# Altium footprint library Mezeq_Semiconductors.PcbLib: 16 footprints
Each footprint in its own frame and in the unit in brackets; x right, y up, seen from the top. Pads: shape width x height; smd on the part's side, far side on the other; paste and mask are expansions set on the pad; w line width, h text height; cw(c..) or ccw(c..) is an arc to the next point about the centre after c.
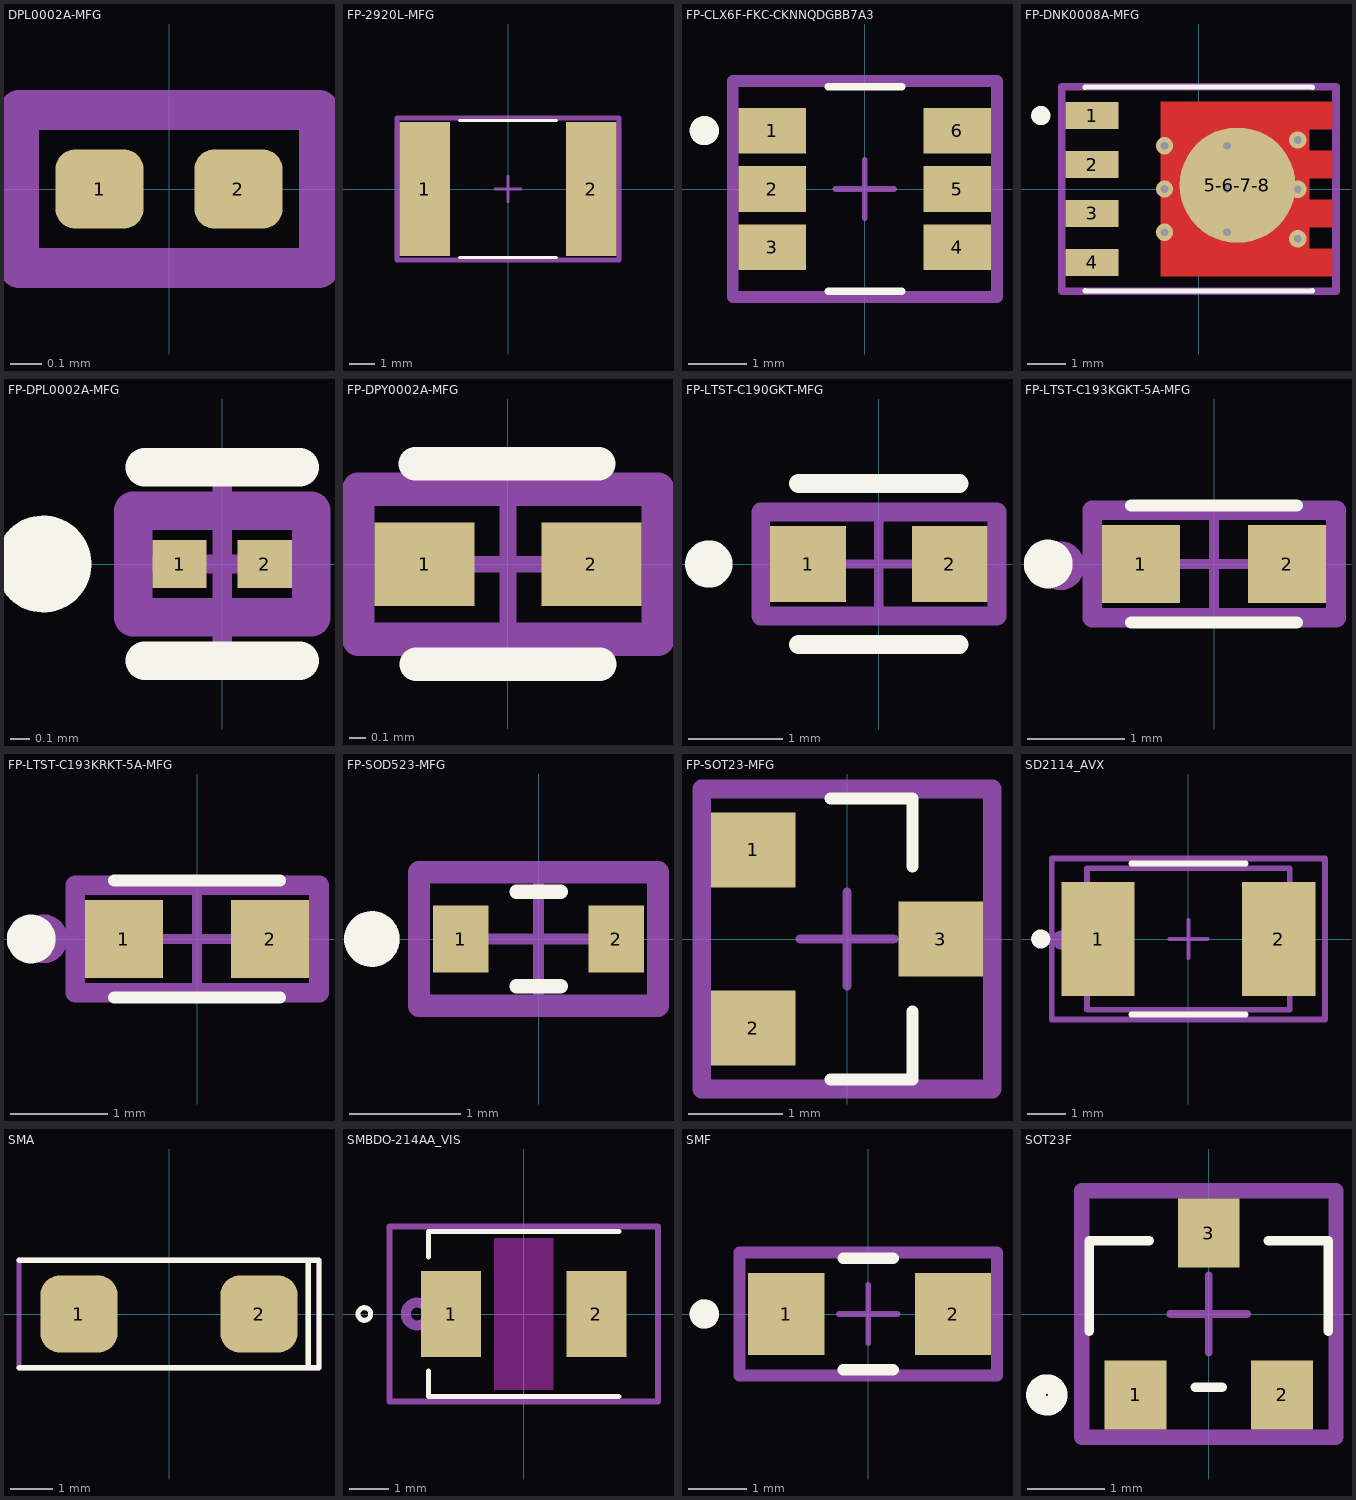
[diagram p0: the footprints below, top view; thin cyan lines are the x and y axes]

## DPL0002A-MFG [mm] "DPL (R-PX2SON-N2) Texas Instruments"
height 0.32
pads (2):
  rrect50% 0.28x0.25 smd paste+0 mask+0: 1(-0.22,0) 2(0.22,0)
Top Assembly:
  lines w0.127: -0.475,-0.25 0.475,-0.25 0.475,0.25 -0.475,0.25 -0.475,-0.25
  text ".Designator" at -2.474,0.533 h0.5
3D body "DPL0002A.stp": height 0.32, standoff 0, extent -0.3,-0.15 0.3,0.15

## FP-2920L-MFG [mm]
pads (2):
  rect 2x5.3 smd: 1(-3.3,0) 2(3.3,0)
Top Overlay:
  lines w0.127: -1.925,-2.72 1.925,-2.72 ; -1.925,2.72 1.925,2.72
Top Assembly:
  lines w0.127: -4.4,-2.82 4.4,-2.82 4.4,2.82 -4.4,2.82 -4.4,-2.82
  text ".Designator" at -4.998,-0.333 h1
Top Courtyard:
  lines w0.2: -4.4,-2.82 4.4,-2.82 4.4,2.82 -4.4,2.82 -4.4,-2.82
Top Component Center:
  lines w0.1: -0.5,0 0.5,0 ; 0,-0.5 0,0.5
3D body "Fuse_Littelfuse_2920L500-16MR_eec.STEP": height 1.25, standoff 0, extent -3.67,-2.558 3.685,2.562

## FP-CLX6F-FKC-CKNNQDGBB7A3 [mm]
pads (6):
  rect 1.16x0.78 smd paste+0 mask+0: 1(-1.585,1) 2(-1.585,0) 3(-1.585,-1) 4(1.585,-1) 5(1.585,0) 6(1.585,1)
Top Overlay:
  circle w0.25: c-2.75,1 r0.125
  lines w0.127: -0.63,-1.75 0.63,-1.75 ; -0.63,1.75 0.63,1.75
Top Assembly:
  circle w0.127: c-1.585,1 r0.121
  lines w0.2: -2.265,-1.85 -2.265,1.85 2.265,1.85 2.265,-1.85 -2.265,-1.85
  text ".Designator" at -4.998,-0.333 h1
Top Courtyard:
  lines w0.2: -2.265,-1.85 -2.265,1.85 2.265,1.85 2.265,-1.85 -2.265,-1.85
Top Component Center:
  lines w0.1: -0.5,0 0.5,0 ; 0,-0.5 0,0.5
3D body "Diode_Cree_CLX6F-FKC-CKNNQDGBB7A363_eec.STEP": height 0.25, standoff 0, extent -2.265,-1.85 2.265,1.85

## FP-DNK0008A-MFG [mm]
pads (5):
  rect 1.372x0.71 smd paste-2539.97 mask+0.05: 1(-2.77,1.905) 2(-2.77,0.635) 3(-2.77,-0.635) 4(-2.77,-1.905)
  round 3 smd paste-2539.97 mask+0.05: 5-6-7-8(1,0.1)
via -0.892,-1.124 diameter 0.45 hole 0.2
via -0.892,0 diameter 0.45 hole 0.2
via -0.892,1.122 diameter 0.45 hole 0.2
via 0.731,1.122 diameter 0.45 hole 0.2
via 0.731,-1.124 diameter 0.45 hole 0.2
via 0.731,0 diameter 0.45 hole 0.2
via 2.567,1.273 diameter 0.45 hole 0.2
via 2.567,-0.01 diameter 0.45 hole 0.2
via 2.567,-1.293 diameter 0.45 hole 0.2
Top Layer:
  region: -0.984,-2.26 3.456,-2.26 3.456,-1.55 2.866,-1.55 2.866,-0.99 3.456,-0.99 3.456,-0.28 2.866,-0.28 2.866,0.28 3.456,0.28 3.456,0.99 2.866,0.99 2.866,1.55 3.456,1.55 3.456,2.26 -0.984,2.26
Top Overlay:
  circle w0.25: c-4.1,1.905 r0.125
  lines w0.127: -2.95,-2.635 -2.95,-2.65 2.95,-2.65 2.95,-2.635 ; -2.95,2.635 -2.95,2.65 2.95,2.65 2.95,2.635
Top Paste:
  rectangle: 2.279,-2.159 3.356,-1.651
  rectangle: 2.282,-0.889 3.356,-0.381
  rectangle: 2.28,1.63 3.384,2.138
  rectangle: -0.82,1.138 0.68,2.138
  rectangle: 0.78,1.138 2.28,2.138
  rectangle: 0.78,0.038 2.28,1.038
  rectangle: -0.82,0.038 0.68,1.038
  rectangle: -0.82,-1.062 0.68,-0.062
  rectangle: 0.78,-2.162 2.28,-1.162
  rectangle: 0.78,-1.062 2.28,-0.062
  rectangle: -0.82,-2.162 0.68,-1.162
  rectangle: -3.293,-2.186 -2.221,-1.624
  rectangle: -3.293,-0.916 -2.221,-0.354
  rectangle: -3.293,0.354 -2.221,0.916
  rectangle: -3.293,1.624 -2.221,2.186
  rectangle: 2.277,0.381 3.356,0.889
Top Assembly:
  circle w0.25: c-3,2 r0.125
  lines w0.127: -3.556,-2.65 -3.556,2.65 3.556,2.65 3.556,-2.65 -3.556,-2.65
  text ".Designator" at -9.997,-0.666 h2
Top Courtyard:
  lines w0.2: -3.556,-2.65 -3.556,2.65 3.556,2.65 3.556,-2.65 -3.556,-2.65
Top Component Center:
  lines w0.1: -0.5,0 0.5,0 ; 0,-0.5 0,0.5
3D body "Trans_Texas_Instruments_CSD19532Q5B_eec.STEP": height 1.05, standoff 0, extent -3,-2.5 3,2.5

## FP-DPL0002A-MFG [mm]
pads (2):
  rect 0.28x0.25 smd paste+0 mask+0: 1(-0.22,0) 2(0.22,0)
Top Overlay:
  circle w0.25: c-0.925,0 r0.125
  lines w0.2: -0.4,-0.5 0.4,-0.5 ; -0.4,0.5 0.4,0.5
Top Assembly:
  circle w0.127: c-0.925,0 r0.125
  lines w0.127: -0.46,-0.275 -0.46,0.275 0.46,0.275 0.46,-0.275 -0.46,-0.275
  text ".Designator" at -1.5,-0.1 h0.3
Top Courtyard:
  lines w0.2: -0.46,-0.275 -0.46,0.275 0.46,0.275 0.46,-0.275 -0.46,-0.275
Top Component Center:
  lines w0.1: -0.5,0 0.5,0 ; 0,-0.5 0,0.5
3D body "Diode_Texas_Instruments_ESD441DPLR_eec.STEP": height 0.32, standoff 0, extent -0.3,-0.15 0.3,0.15

## FP-DPY0002A-MFG [mm]
pads (2):
  rect 0.6x0.5 smd paste+0 mask+0: 1(-0.5,0) 2(0.5,0)
Top Overlay:
  lines w0.2: -0.556,0.604 0.544,0.604 ; -0.55,-0.6 0.55,-0.6
Top Assembly:
  lines w0.127: -0.9,-0.45 -0.9,0.45 0.9,0.45 0.9,-0.45 -0.9,-0.45
  text ".Designator" at -2.499,-0.167 h0.5
Top Courtyard:
  lines w0.2: -0.9,-0.45 -0.9,0.45 0.9,0.45 0.9,-0.45 -0.9,-0.45
Top Component Center:
  lines w0.1: -0.5,0 0.5,0 ; 0,-0.5 0,0.5
3D body "Diode_Texas_Instruments_TPD1E1B04DPYR_eec.STEP": height 0.45, standoff 0, extent -0.5,-0.3 0.5,0.3

## FP-LTST-C190GKT-MFG [mm]
pads (2):
  rect 0.8x0.8 smd paste+0 mask+0: 1(-0.75,0) 2(0.75,0)
Top Overlay:
  circle w0.25: c-1.8,0 r0.125
  lines w0.2: -0.85,-0.85 0.85,-0.85 ; -0.85,0.85 0.85,0.85
Top Assembly:
  circle w0.127: c-1.8,0 r0.125
  lines w0.127: -1.25,-0.55 -1.25,0.55 1.25,0.55 1.25,-0.55 -1.25,-0.55
  text ".Designator" at -2.499,-0.167 h0.5
Top Courtyard:
  lines w0.2: -1.25,-0.55 -1.25,0.55 1.25,0.55 1.25,-0.55 -1.25,-0.55
Top Component Center:
  lines w0.1: -0.5,0 0.5,0 ; 0,-0.5 0,0.5
3D body "Diode_Lite-On_LTST-C190GKT_eec.STEP": height 0.9, standoff 0, extent -0.8,-0.4 0.8,0.4

## FP-LTST-C193KGKT-5A-MFG [mm]
pads (2):
  rect 0.8x0.8 smd: 1(-0.75,0) 2(0.75,0)
Top Overlay:
  circle w0.25: c-1.7,0 r0.125
  lines w0.127: -0.85,-0.6 0.85,-0.6 ; -0.85,0.6 0.85,0.6
Top Assembly:
  circle w0.25: c-1.576,-0.017 r0.125
  lines w0.127: -1.25,-0.55 1.25,-0.55 1.25,0.55 -1.25,0.55 -1.25,-0.55
  text ".Designator" at -2.499,-0.167 h0.5
Top Courtyard:
  lines w0.2: -1.25,-0.55 1.25,-0.55 1.25,0.55 -1.25,0.55 -1.25,-0.55
Top Component Center:
  lines w0.1: -0.5,0 0.5,0 ; 0,-0.5 0,0.5
3D body "Diode_Lite-On_LTST-C193KGKT-5A_eec.STEP": height 0.45, standoff 0, extent -0.8,-0.401 0.8,0.4

## FP-LTST-C193KRKT-5A-MFG [mm]
pads (2):
  rect 0.8x0.8 smd: 1(-0.75,0) 2(0.75,0)
Top Overlay:
  circle w0.25: c-1.7,0 r0.125
  lines w0.127: -0.85,-0.6 0.85,-0.6 ; -0.85,0.6 0.85,0.6
Top Assembly:
  circle w0.25: c-1.575,0.001 r0.125
  lines w0.127: -1.25,-0.55 -1.25,0.55 1.25,0.55 1.25,-0.55 -1.25,-0.55
  text ".Designator" at -2.499,-0.167 h0.5
Top Courtyard:
  lines w0.2: -1.25,-0.55 -1.25,0.55 1.25,0.55 1.25,-0.55 -1.25,-0.55
Top Component Center:
  lines w0.1: -0.5,0 0.5,0 ; 0,-0.5 0,0.5
3D body "Diode_Lite-On_LTST-C193KRKT-5A_eec.STEP": height 0.45, standoff 0, extent -0.8,-0.402 0.8,0.4

## FP-SOD523-MFG [mm]
pads (2):
  rect 0.5x0.6 smd: 1(-0.7,0) 2(0.7,0)
Top Overlay:
  circle w0.25: c-1.5,0 r0.125
  lines w0.127: -0.2,-0.425 0.2,-0.425 ; -0.2,0.425 0.2,0.425
Top Paste:
  rectangle: 0.5,-0.25 0.9,0.25
  rectangle: -0.9,-0.25 -0.5,0.25
Top Assembly:
  circle w0.25: c-1.5,0 r0.125
  lines w0.127: -1.075,-0.6 -1.075,0.6 1.075,0.6 1.075,-0.6 -1.075,-0.6
  text ".Designator" at -2.499,-0.167 h0.5
Top Courtyard:
  lines w0.2: -1.075,-0.6 -1.075,0.6 1.075,0.6 1.075,-0.6 -1.075,-0.6
Top Component Center:
  lines w0.1: -0.5,0 0.5,0 ; 0,-0.5 0,0.5
3D body "Diode_Nexperia_BAS516_315_eec.STEP": height 0.65, standoff 0, extent -0.8,-0.4 0.8,0.4

## FP-SOT23-MFG [mm]
pads (3):
  rect 0.9x0.8 smd: 1(-1,0.95) 2(-1,-0.95) 3(1,0)
Top Overlay:
  lines w0.127: -0.175,-1.5 0.7,-1.5 0.7,-0.775 ; -0.175,1.5 0.7,1.5 0.7,0.775
Top Assembly:
  lines w0.127: -1.55,-1.6 -1.55,1.6 1.55,1.6 1.55,-1.6 -1.55,-1.6
  text ".Designator" at -4.998,-0.333 h1
Top Courtyard:
  lines w0.2: -1.55,-1.6 -1.55,1.6 1.55,1.6 1.55,-1.6 -1.55,-1.6
Top Component Center:
  lines w0.1: -0.5,0 0.5,0 ; 0,-0.5 0,0.5
3D body "Diode_Diodes_Inc_BZX84C18-7-F_eec.STEP": height 1.1, standoff 0, extent -1.2,-1.45 1.2,1.45

## SD2114_AVX [mil]
pads (2):
  rect 75.5x118 smd: 1(-93.25,0) 2(93.25,0)
Top Overlay:
  circle w9.84: c-152.32,0 r4.92
  lines w6: -59.06,-78 59.06,-78 ; -59.06,78 59.06,78
Top Assembly:
  circle w9.84: c-131,-1.17 r4.92
  lines w5.98: -104.5,-73 -104.5,73 104.5,73 104.5,-73 -104.5,-73
  text ".Designator" at -196.79,-13.12 h39.37
Top Courtyard:
  lines w6: -141,-83 -114.5,-83 114.5,-83 141,-83 141,83 114.5,83 -114.5,83 -141,83 -141,-83
Top Component Center:
  lines w3.94: -19.69,0 19.68,0 ; 0,-19.69 0,19.68
3D body "SD2114_AVX.step": height 47.01, standoff 0, extent -104.49,-73.11 104.49,73.11

## SMA [mm] "DO-214AC"
height 2.3
pads (2):
  rrect50% 1.8x1.8 smd: 1(-2.1,0) 2(2.1,0)
Top Overlay:
  lines w0.127: -3.5,-1.25 3.5,-1.25 ; -3.5,1.25 3.5,1.25 3.5,-1.243 ; 3.25,-1.25 3.25,1.249
Top Assembly:
  lines w0.127: 3.25,-1.25 3.25,1.249 ; -3.5,-1.25 -3.5,1.25 3.5,1.25 3.5,-1.25 -3.5,-1.25
  text ".Designator" at -4.998,-0.333 h1
3D body "SMAJ24A.step": height 2.51, standoff 0.01, extent -2.57,-1.28 2.57,1.28

## SMBDO-214AA_VIS [mm] "Surface Mount DO-214AA (SMB)"
height 2.44
pads (2):
  rect 1.52x2.18 smd: 1(-1.84,0) 2(1.84,0)
Top Layer keep-out:
  region: -0.75,-1.918 -0.75,1.918 0.75,1.918 0.75,-1.918
Top Overlay:
  circle w0.127: c-4.039,0 r0.161
  lines w0.127: -2.413,-1.45 -2.413,-2.095 2.413,-2.095 ; -2.413,1.45 -2.413,2.095 2.413,2.095
Top Assembly:
  circle w0.254: c-2.699,0 r0.29
  lines w0.127: -3.404,-2.222 3.404,-2.222 3.404,2.222 -3.404,2.222 -3.404,-2.222
  text ".Designator" at -7.618,-0.508 h1.52
Top Courtyard:
  lines w0.152: -3.404,-2.222 -3.404,2.222 3.404,2.222 3.404,-2.222 -3.404,-2.222
3D body "5BT.STEP": height 2.44, standoff 0, extent -2.699,-1.81 2.699,1.81

## SMF [mm]
pads (2):
  rect 1.3x1.4 smd: 1(-1.4,0) 2(1.45,0)
Top Overlay:
  circle w0.25: c-2.8,0 r0.125
  lines w0.2: -0.425,-0.95 0.425,-0.95 ; -0.425,0.95 0.425,0.95
Top Assembly:
  circle w0.25: c-2.8,0 r0.125
  lines w0.127: -2.2,-1.05 -2.2,1.05 2.2,1.05 2.2,-1.05 -2.2,-1.05
  text ".Designator" at -4.998,-0.333 h1
Top Courtyard:
  lines w0.2: -2.2,-1.05 -2.2,1.05 2.2,1.05 2.2,-1.05 -2.2,-1.05
Top Component Center:
  lines w0.1: -0.5,0 0.5,0 ; 0,-0.5 0,0.5
3D body "Diode_Vishay_SMF5V0A-E3-08_eec.STEP": height 1.08, standoff 0, extent -1.85,-0.899 1.85,0.899

## SOT23F [mm]
pads (3):
  rect 0.8x0.9 smd: 1(-0.95,-1.05) 2(0.95,-1.05) 3(0,1.05)
Top Overlay:
  circle w0.254: c-2.1,-1.05 r0.141
  lines w0.127: -1.55,-0.225 -1.55,0.95 -0.775,0.95 ; -0.175,-0.95 0.175,-0.95 ; 0.775,0.95 1.55,0.95 1.55,-0.225
Top Assembly:
  lines w0.127: -1.65,-1.6 -1.65,1.6 1.65,1.6 1.65,-1.6 -1.65,-1.6
  text ".Designator" at -4.998,-0.333 h1
Top Courtyard:
  lines w0.2: -1.65,-1.6 -1.65,1.6 1.65,1.6 1.65,-1.6 -1.65,-1.6
Top Component Center:
  lines w0.1: -0.5,0 0.5,0 ; 0,-0.5 0,0.5
3D body "Trans_Toshiba_SSM3K341R_LF_eec.STEP": height 0.88, standoff 0, extent -1.45,-1.2 1.45,1.2